# Altium integrated library TL2203EE.IntLib: 1 symbol
Pins are listed as number, name and electrical type; pins without a type are passive.

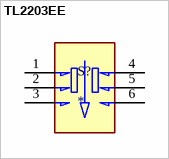
[diagram p0: symbol TL2203EE]

## TL2203EE
designator S?
Pushbutton Switch DPDT Standard Through Hole; MP: TL2203EE; MF: E-Switch; Availability: In Stock; SnapEDA_Link: https://www.snapeda.com/parts/TL2203EE/E-Switch/view-part/?ref=snap; Package: None; Value: *; Price: None; Purchase-URL: https://pricing.snapeda.com/search/part/TL2203EE/?ref=eda; Check_prices: https://www.snapeda.com/parts/TL2203EE/E-Switch/view-part/?ref=eda
footprint SW_TL2203EE
pins: 1 NC1, 2 COM1, 3 NO1, 4 NC2, 5 COM2, 6 NO2